# Altium schematic symbol library U.FL-R-SMT-1_40_.SchLib: 1 symbol
Pins are listed as number, name and electrical type; pins without a type are passive.

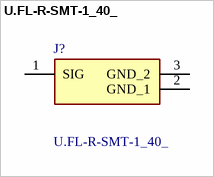
[diagram p0: symbol U.FL-R-SMT-1_40_]

## U.FL-R-SMT-1_40_
designator J?
RF Connectors / Coaxial Connectors SMT MALE RECEPT AU 50 OHM; Manufacturer_Name: Hirose; Manufacturer_Part_Number: U.FL-R-SMT-1(40); Geometry.Height: 1.45mm; Mouser Part Number: 798-UFLRSMT140; Mouser Price/Stock: https://www.mouser.co.uk/ProductDetail/Hirose-Connector/U.FL-R-SMT-140?qs=PABxe4V6HDrVNWAmh6WKgw%3D%3D; Datasheet Link: https://www.arrow.com/en/products/u.fl-r-smt-1-40/hirose-electric
footprint UFLRSMT140
pins: 1 SIG, 2 GND_1, 3 GND_2